# Altium footprint library SM08B-GHS-TB(LF)(SN).PcbLib: 1 footprints
Each footprint in its own frame and in the unit in brackets; x right, y up, seen from the top. Pads: shape width x height; smd on the part's side, far side on the other; paste and mask are expansions set on the pad; w line width, h text height; cw(c..) or ccw(c..) is an arc to the next point about the centre after c.
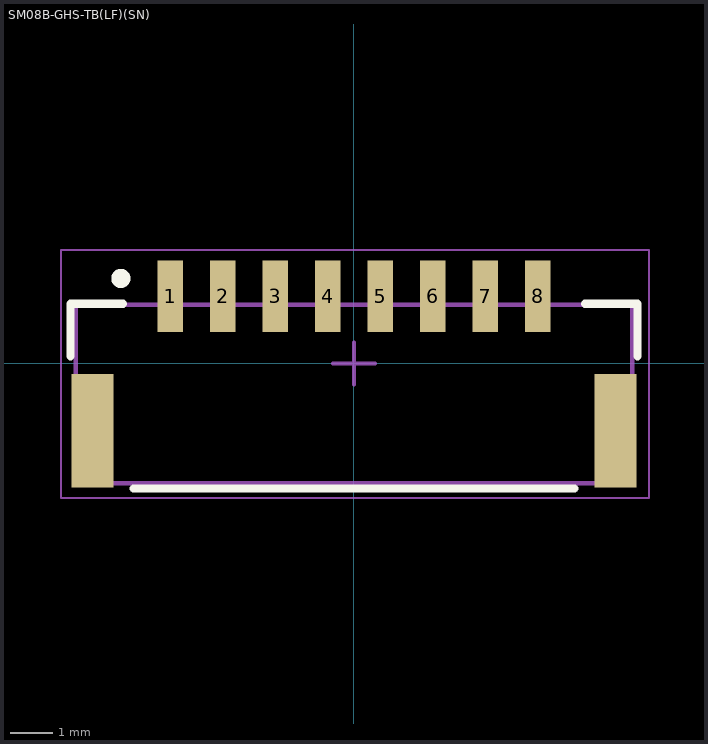
[diagram p0: the footprint, top view; thin cyan lines are the x and y axes]

## SM08B-GHS-TB(LF)(SN) [mm]
pads (10):
  rect 0.6x1.7 smd: 1(-4.375,1.6) 2(-3.125,1.6) 3(-1.875,1.6) 4(-0.625,1.6) 5(0.625,1.6) 6(1.875,1.6) 7(3.125,1.6) 8(4.375,1.6)
  rect 1x2.7 smd: ""(-6.225,-1.6) ""(6.225,-1.6)
Top Overlay:
  circle w0.254: c-5.55,2.025 r0.1
  lines w0.2: -6.75,0.175 -6.75,1.425 -5.5,1.425 ; -5.25,-2.975 5.25,-2.975 ; 5.5,1.425 6.75,1.425 6.75,0.175
Mechanical 1:
  lines w0.1: -6.625,-2.85 -6.625,1.4 6.625,1.4 6.625,-2.85 -6.625,-2.85
  text ".Designator" at -3.374,-1.458 h0.65
Mechanical 2:
  lines w0.05: -6.975,-3.2 7.025,-3.2 7.025,2.7 -6.975,2.7 -6.975,-3.2
  lines w0.1: -0.5,0 0.5,0 ; 0,-0.5 0,0.5
3D body "SM08B-GHS-TB.STEP": height 4.35, standoff 0, extent -6.625,-2.85 6.625,2